# EAGLE library part TR_MBT3904DW1T1 (library akita)
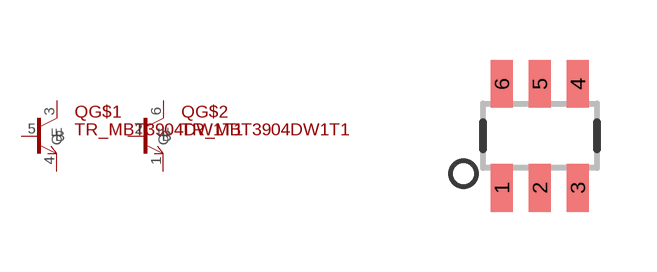
[diagram p91: symbol with the pads of SOT23-6; footprint SOT23-6]

Designator prefix Q; gates G$1=TR_NPN G$2=TR_NPN

## TR_MBT3904DW1T1  [SOT23-6]
1  G$2:E
2  G$2:B
3  G$1:C
4  G$1:E
5  G$1:B
6  G$2:C

## Footprint SOT23-6 (pad centres in mm)
smd 0.55 x 1.2: 1 -0.95,-1.3; 2 0,-1.3; 3 0.95,-1.3; 4 0.95,1.3; 5 0,1.3; 6 -0.95,1.3